# Altium integrated library Maxim Digital Potentiometers.IntLib: 1045 symbols (part 33 of 42)
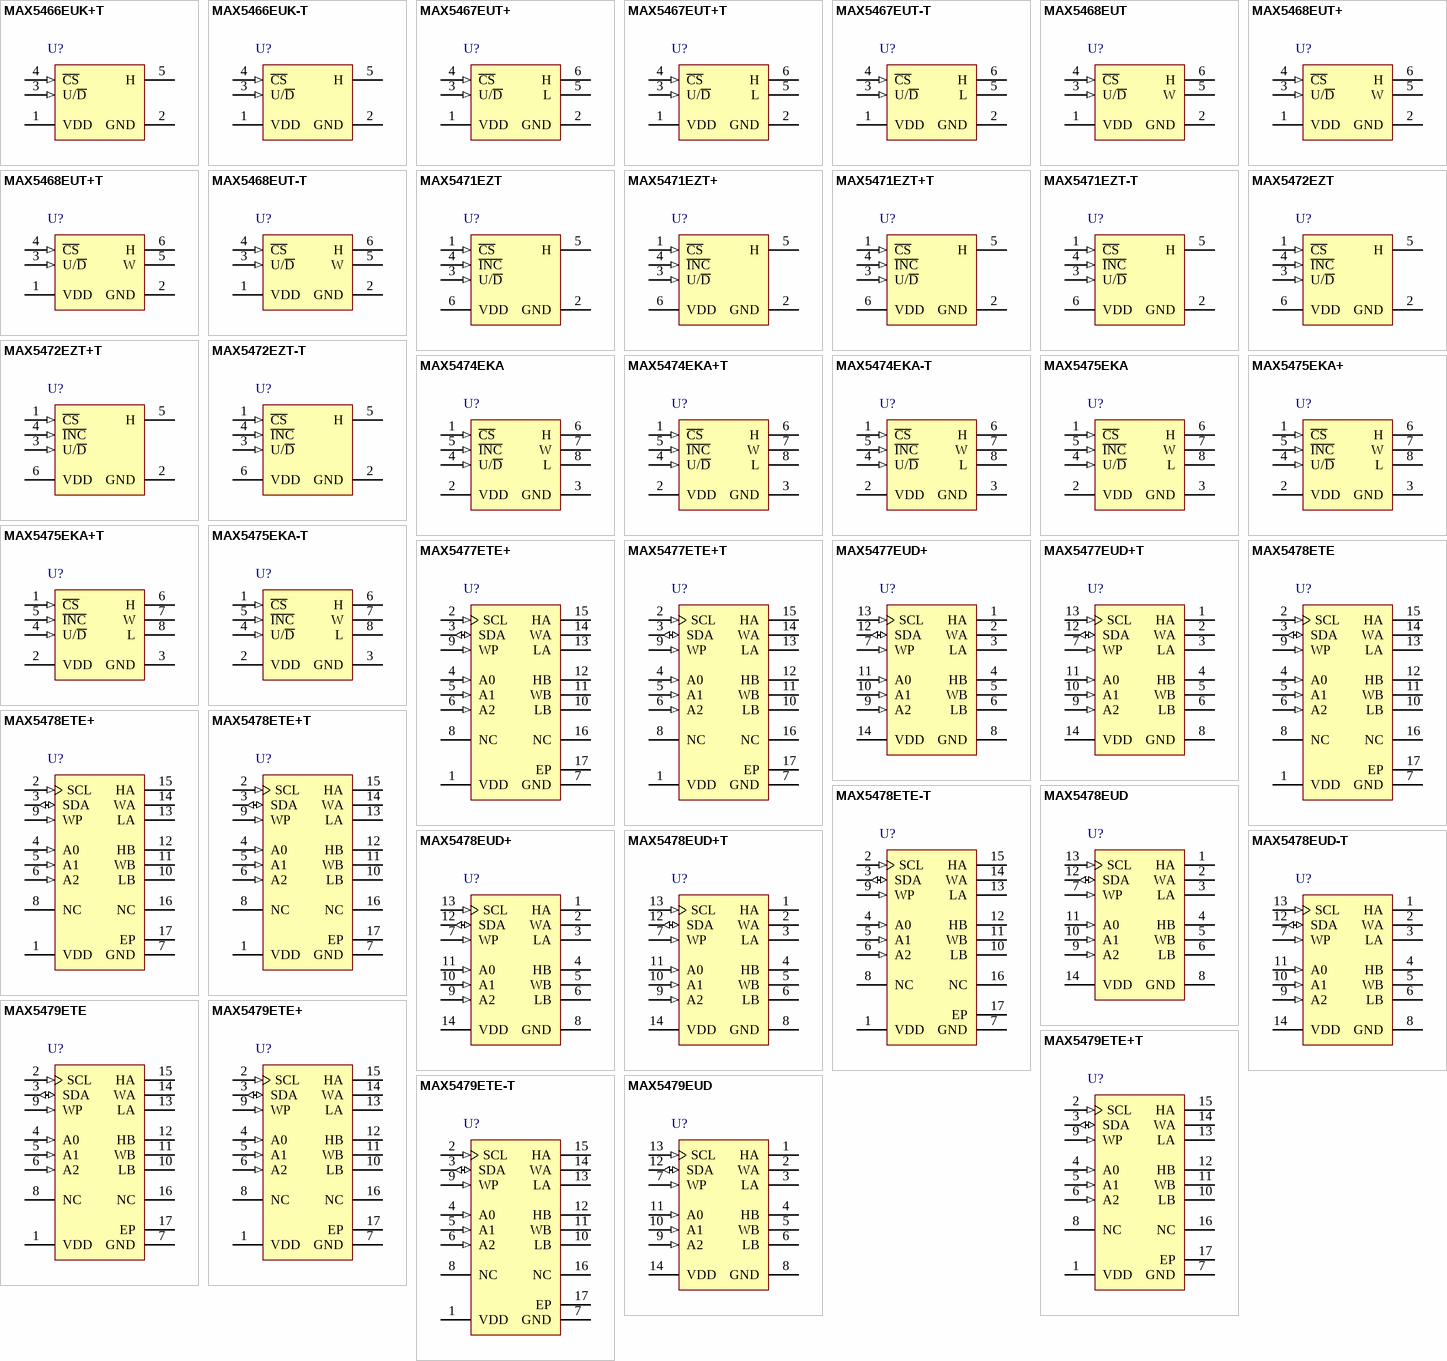
[diagram p61: symbols MAX5466EUK+T to MAX5479EUD]

## MAX5474EKA
designator U?
50 Kohm Potentiometer with Up/Down Control Interface, Non-Volatile, Linear Taper, 32 Steps, -40 to 85 degC, 8-pin SOT (K8SN-1); PartNumber: MAX5474EKA; DatasheetVersion: Rev. 1; PackageVersion: Rev. J, 10/2009; PackageReference: K8SN-1; PackageDescription: 8-Pin Small-Outline Transistor Package (K8SN-1), Body 2.9 x 1.625 mm, Pitch 0.65 mm; Supplier 1: Mouser; Supplier Part Number 1: N/A; Control Interface: Up/Down; Features: EEPROM Wiper Memory; Mounting Technology: Surface Mount; Code_JEDEC: MO178; ComponentLink1Description: Manufacturer URL; ComponentLink1URL: http://www.maximintegrated.com/; ComponentLink2Description: Datasheet; ComponentLink2URL: http://datasheets.maximintegrated.com/en/ds/MAX5471-MAX5475.pdf; ComponentLink3Description: Package Specification; ComponentLink3URL: http://pdfserv.maximintegrated.com/package_dwgs/21-0078.PDF
footprint MAXM-K8SN-1_V (SOT23, 8-Leads, Body 2.9x1.625mm, Pitch 0.65mm)
pins: 1 ~{CS} (in) "Chip-Select Input. Drive low to change wiper position (W) through I\N\C\ and U/D\. A low-to-high transition with I\N\C\ high stores the wiper position in nonvolatile memory", 2 VDD (power) "Power Supply.", 3 GND (power) "Ground", 4 U/~{D} (in) "Up/Down Control Input. With U/D\ low, a high-to-low I\N\C\ transition decrements the wiper position. With U/D\ high, a high-to-low I\N\C\ transition increments the wiper position.", 5 ~{INC} (in) "Wiper Increment Control Input. With C\S\ low, the wiper position moves in the direction determined by the state of U/D\ on a high-to-low transition.", 6 H "High Terminal of Resistor. The voltage at H can be greater than or less than the voltage at L. Current can flow into or out of H.", 7 W "Wiper Terminal of Resistor", 8 L "Low Terminal of Resistor. The voltage at L can be greater than or less than the voltage at H. Current can flow into or out of L."

## MAX5474EKA+T
designator U?
50 Kohm Potentiometer with Up/Down Control Interface, Non-Volatile, Linear Taper, 32 Steps, -40 to 85 degC, 8-pin SOT (K8SN+1), Pb-Free, Tape and Reel; PartNumber: MAX5474EKA+T; DatasheetVersion: Rev. 1; PackageVersion: Rev. J, 10/2009; PackageReference: K8SN+1; PackageDescription: 8-Pin Small-Outline Transistor Package (K8SN+1), Body 2.9 x 1.625 mm, Pitch 0.65 mm; Supplier 1: Digi-Key; Supplier Part Number 1: MAX5474EKA+TTR-ND; Supplier 2: Digi-Key; Supplier Part Number 2: MAX5474EKA+TCT-ND; Supplier 3: Digi-Key; Supplier Part Number 3: MAX5474EKA+TDKR-ND; Supplier 4: Mouser; Supplier Part Number 4: 700-MAX5474EKAT; Control Interface: Up/Down; Features: EEPROM Wiper Memory; Mounting Technology: Surface Mount; Code_JEDEC: MO178; ComponentLink1Description: Manufacturer URL; ComponentLink1URL: http://www.maximintegrated.com/; ComponentLink2Description: Datasheet; ComponentLink2URL: http://datasheets.maximintegrated.com/en/ds/MAX5471-MAX5475.pdf; ComponentLink3Description: Package Specification; ComponentLink3URL: http://pdfserv.maximintegrated.com/package_dwgs/21-0078.PDF
footprint MAXM-K8SN+1_V (SOT23, 8-Leads, Body 2.9x1.625mm, Pitch 0.65 mm)
pins: 1 ~{CS} (in) "Chip-Select Input. Drive low to change wiper position (W) through I\N\C\ and U/D\. A low-to-high transition with I\N\C\ high stores the wiper position in nonvolatile memory", 2 VDD (power) "Power Supply.", 3 GND (power) "Ground", 4 U/~{D} (in) "Up/Down Control Input. With U/D\ low, a high-to-low I\N\C\ transition decrements the wiper position. With U/D\ high, a high-to-low I\N\C\ transition increments the wiper position.", 5 ~{INC} (in) "Wiper Increment Control Input. With C\S\ low, the wiper position moves in the direction determined by the state of U/D\ on a high-to-low transition.", 6 H "High Terminal of Resistor. The voltage at H can be greater than or less than the voltage at L. Current can flow into or out of H.", 7 W "Wiper Terminal of Resistor", 8 L "Low Terminal of Resistor. The voltage at L can be greater than or less than the voltage at H. Current can flow into or out of L."

## MAX5474EKA-T
designator U?
50 Kohm Potentiometer with Up/Down Control Interface, Non-Volatile, Linear Taper, 32 Steps, -40 to 85 degC, 8-pin SOT (K8SN-1), Tape and Reel; PartNumber: MAX5474EKA-T; DatasheetVersion: Rev. 1; PackageVersion: Rev. J, 10/2009; PackageReference: K8SN-1; PackageDescription: 8-Pin Small-Outline Transistor Package (K8SN-1), Body 2.9 x 1.625 mm, Pitch 0.65 mm; Supplier 1: Mouser; Supplier Part Number 1: N/A; Control Interface: Up/Down; Features: EEPROM Wiper Memory; Mounting Technology: Surface Mount; Code_JEDEC: MO178; ComponentLink1Description: Manufacturer URL; ComponentLink1URL: http://www.maximintegrated.com/; ComponentLink2Description: Datasheet; ComponentLink2URL: http://datasheets.maximintegrated.com/en/ds/MAX5471-MAX5475.pdf; ComponentLink3Description: Package Specification; ComponentLink3URL: http://pdfserv.maximintegrated.com/package_dwgs/21-0078.PDF
footprint MAXM-K8SN-1_V (SOT23, 8-Leads, Body 2.9x1.625mm, Pitch 0.65mm)
pins: 1 ~{CS} (in) "Chip-Select Input. Drive low to change wiper position (W) through I\N\C\ and U/D\. A low-to-high transition with I\N\C\ high stores the wiper position in nonvolatile memory", 2 VDD (power) "Power Supply.", 3 GND (power) "Ground", 4 U/~{D} (in) "Up/Down Control Input. With U/D\ low, a high-to-low I\N\C\ transition decrements the wiper position. With U/D\ high, a high-to-low I\N\C\ transition increments the wiper position.", 5 ~{INC} (in) "Wiper Increment Control Input. With C\S\ low, the wiper position moves in the direction determined by the state of U/D\ on a high-to-low transition.", 6 H "High Terminal of Resistor. The voltage at H can be greater than or less than the voltage at L. Current can flow into or out of H.", 7 W "Wiper Terminal of Resistor", 8 L "Low Terminal of Resistor. The voltage at L can be greater than or less than the voltage at H. Current can flow into or out of L."

## MAX5475EKA
designator U?
100 Kohm Potentiometer with Up/Down Control Interface, Non-Volatile, Linear Taper, 32 Steps, -40 to 85 degC, 8-pin SOT (K8SN-1); PartNumber: MAX5475EKA; DatasheetVersion: Rev. 1; PackageVersion: Rev. J, 10/2009; PackageReference: K8SN-1; PackageDescription: 8-Pin Small-Outline Transistor Package (K8SN-1), Body 2.9 x 1.625 mm, Pitch 0.65 mm; Supplier 1: Mouser; Supplier Part Number 1: N/A; Control Interface: Up/Down; Features: EEPROM Wiper Memory; Mounting Technology: Surface Mount; Code_JEDEC: MO178; ComponentLink1Description: Manufacturer URL; ComponentLink1URL: http://www.maximintegrated.com/; ComponentLink2Description: Datasheet; ComponentLink2URL: http://datasheets.maximintegrated.com/en/ds/MAX5471-MAX5475.pdf; ComponentLink3Description: Package Specification; ComponentLink3URL: http://pdfserv.maximintegrated.com/package_dwgs/21-0078.PDF
footprint MAXM-K8SN-1_V (SOT23, 8-Leads, Body 2.9x1.625mm, Pitch 0.65mm)
pins: 1 ~{CS} (in) "Chip-Select Input. Drive low to change wiper position (W) through I\N\C\ and U/D\. A low-to-high transition with I\N\C\ high stores the wiper position in nonvolatile memory", 2 VDD (power) "Power Supply.", 3 GND (power) "Ground", 4 U/~{D} (in) "Up/Down Control Input. With U/D\ low, a high-to-low I\N\C\ transition decrements the wiper position. With U/D\ high, a high-to-low I\N\C\ transition increments the wiper position.", 5 ~{INC} (in) "Wiper Increment Control Input. With C\S\ low, the wiper position moves in the direction determined by the state of U/D\ on a high-to-low transition.", 6 H "High Terminal of Resistor. The voltage at H can be greater than or less than the voltage at L. Current can flow into or out of H.", 7 W "Wiper Terminal of Resistor", 8 L "Low Terminal of Resistor. The voltage at L can be greater than or less than the voltage at H. Current can flow into or out of L."

## MAX5475EKA+
designator U?
100 Kohm Potentiometer with Up/Down Control Interface, Non-Volatile, Linear Taper, 32 Steps, -40 to 85 degC, 8-pin SOT (K8SN+1), Pb-Free,; PartNumber: MAX5475EKA+; DatasheetVersion: Rev. 1; PackageVersion: Rev. J, 10/2009; PackageReference: K8SN+1; PackageDescription: 8-Pin Small-Outline Transistor Package (K8SN+1), Body 2.9 x 1.625 mm, Pitch 0.65 mm; Supplier 1: Mouser; Supplier Part Number 1: N/A; Control Interface: Up/Down; Features: EEPROM Wiper Memory; Mounting Technology: Surface Mount; Code_JEDEC: MO178; ComponentLink1Description: Manufacturer URL; ComponentLink1URL: http://www.maximintegrated.com/; ComponentLink2Description: Datasheet; ComponentLink2URL: http://datasheets.maximintegrated.com/en/ds/MAX5471-MAX5475.pdf; ComponentLink3Description: Package Specification; ComponentLink3URL: http://pdfserv.maximintegrated.com/package_dwgs/21-0078.PDF
footprint MAXM-K8SN+1_V (SOT23, 8-Leads, Body 2.9x1.625mm, Pitch 0.65 mm)
pins: 1 ~{CS} (in) "Chip-Select Input. Drive low to change wiper position (W) through I\N\C\ and U/D\. A low-to-high transition with I\N\C\ high stores the wiper position in nonvolatile memory", 2 VDD (power) "Power Supply.", 3 GND (power) "Ground", 4 U/~{D} (in) "Up/Down Control Input. With U/D\ low, a high-to-low I\N\C\ transition decrements the wiper position. With U/D\ high, a high-to-low I\N\C\ transition increments the wiper position.", 5 ~{INC} (in) "Wiper Increment Control Input. With C\S\ low, the wiper position moves in the direction determined by the state of U/D\ on a high-to-low transition.", 6 H "High Terminal of Resistor. The voltage at H can be greater than or less than the voltage at L. Current can flow into or out of H.", 7 W "Wiper Terminal of Resistor", 8 L "Low Terminal of Resistor. The voltage at L can be greater than or less than the voltage at H. Current can flow into or out of L."

## MAX5475EKA+T
designator U?
100 Kohm Potentiometer with Up/Down Control Interface, Non-Volatile, Linear Taper, 32 Steps, -40 to 85 degC, 8-pin SOT (K8SN+1), Pb-Free, Tape and Reel; PartNumber: MAX5475EKA+T; DatasheetVersion: Rev. 1; PackageVersion: Rev. J, 10/2009; PackageReference: K8SN+1; PackageDescription: 8-Pin Small-Outline Transistor Package (K8SN+1), Body 2.9 x 1.625 mm, Pitch 0.65 mm; Supplier 1: Digi-Key; Supplier Part Number 1: MAX5475EKA+TTR-ND; Supplier 2: Digi-Key; Supplier Part Number 2: MAX5475EKA+TCT-ND; Supplier 3: Digi-Key; Supplier Part Number 3: MAX5475EKA+TDKR-ND; Supplier 4: Mouser; Supplier Part Number 4: 700-MAX5475EKAT; Control Interface: Up/Down; Features: EEPROM Wiper Memory; Mounting Technology: Surface Mount; Code_JEDEC: MO178; ComponentLink1Description: Manufacturer URL; ComponentLink1URL: http://www.maximintegrated.com/; ComponentLink2Description: Datasheet; ComponentLink2URL: http://datasheets.maximintegrated.com/en/ds/MAX5471-MAX5475.pdf; ComponentLink3Description: Package Specification; ComponentLink3URL: http://pdfserv.maximintegrated.com/package_dwgs/21-0078.PDF
footprint MAXM-K8SN+1_V (SOT23, 8-Leads, Body 2.9x1.625mm, Pitch 0.65 mm)
pins: 1 ~{CS} (in) "Chip-Select Input. Drive low to change wiper position (W) through I\N\C\ and U/D\. A low-to-high transition with I\N\C\ high stores the wiper position in nonvolatile memory", 2 VDD (power) "Power Supply.", 3 GND (power) "Ground", 4 U/~{D} (in) "Up/Down Control Input. With U/D\ low, a high-to-low I\N\C\ transition decrements the wiper position. With U/D\ high, a high-to-low I\N\C\ transition increments the wiper position.", 5 ~{INC} (in) "Wiper Increment Control Input. With C\S\ low, the wiper position moves in the direction determined by the state of U/D\ on a high-to-low transition.", 6 H "High Terminal of Resistor. The voltage at H can be greater than or less than the voltage at L. Current can flow into or out of H.", 7 W "Wiper Terminal of Resistor", 8 L "Low Terminal of Resistor. The voltage at L can be greater than or less than the voltage at H. Current can flow into or out of L."

## MAX5475EKA-T
designator U?
100 Kohm Potentiometer with Up/Down Control Interface, Non-Volatile, Linear Taper, 32 Steps, -40 to 85 degC, 8-pin SOT (K8SN-1), Tape and Reel; PartNumber: MAX5475EKA-T; DatasheetVersion: Rev. 1; PackageVersion: Rev. J, 10/2009; PackageReference: K8SN-1; PackageDescription: 8-Pin Small-Outline Transistor Package (K8SN-1), Body 2.9 x 1.625 mm, Pitch 0.65 mm; Supplier 1: Mouser; Supplier Part Number 1: N/A; Control Interface: Up/Down; Features: EEPROM Wiper Memory; Mounting Technology: Surface Mount; Code_JEDEC: MO178; ComponentLink1Description: Manufacturer URL; ComponentLink1URL: http://www.maximintegrated.com/; ComponentLink2Description: Datasheet; ComponentLink2URL: http://datasheets.maximintegrated.com/en/ds/MAX5471-MAX5475.pdf; ComponentLink3Description: Package Specification; ComponentLink3URL: http://pdfserv.maximintegrated.com/package_dwgs/21-0078.PDF
footprint MAXM-K8SN-1_V (SOT23, 8-Leads, Body 2.9x1.625mm, Pitch 0.65mm)
pins: 1 ~{CS} (in) "Chip-Select Input. Drive low to change wiper position (W) through I\N\C\ and U/D\. A low-to-high transition with I\N\C\ high stores the wiper position in nonvolatile memory", 2 VDD (power) "Power Supply.", 3 GND (power) "Ground", 4 U/~{D} (in) "Up/Down Control Input. With U/D\ low, a high-to-low I\N\C\ transition decrements the wiper position. With U/D\ high, a high-to-low I\N\C\ transition increments the wiper position.", 5 ~{INC} (in) "Wiper Increment Control Input. With C\S\ low, the wiper position moves in the direction determined by the state of U/D\ on a high-to-low transition.", 6 H "High Terminal of Resistor. The voltage at H can be greater than or less than the voltage at L. Current can flow into or out of H.", 7 W "Wiper Terminal of Resistor", 8 L "Low Terminal of Resistor. The voltage at L can be greater than or less than the voltage at H. Current can flow into or out of L."

## MAX5477ETE+
designator U?
Dual 10k Digital Potentiometer with 2-Wire Serial Control Interface, Non-Volatile, Linear Taper, 256 Steps, -40 to 85 degC, 16-pin TQFN (T1633F+3), Pb-Free; PartNumber: MAX5477ETE+; DatasheetVersion: Rev. 5; PackageVersion: Rev. L, 04/2012; PackageReference: T1633F+3; PackageDescription: 16-Pin Thin Quad Flatpack, No Leads, Body 3 x 3 mm, Pitch 0.5 mm; Supplier 1: Digi-Key; Supplier Part Number 1: MAX5477ETE+-ND; Supplier 2: Farnell; Supplier Part Number 2: 1714951; Supplier 3: Newark; Supplier Part Number 3: 88M2599; Supplier 4: Mouser; Supplier Part Number 4: 700-MAX5477ETE; Control Interface: 2-Wire Serial; Features: EEPROM Wiper Memory; Mounting Technology: Surface Mount; Code_JEDEC: MO220; ComponentLink1Description: Manufacturer URL; ComponentLink1URL: http://www.maximintegrated.com/; ComponentLink2Description: Datasheet; ComponentLink2URL: http://datasheets.maximintegrated.com/en/ds/MAX5477-MAX5479.pdf; ComponentLink3Description: Package Specification; ComponentLink3URL: http://pdfserv.maximintegrated.com/package_dwgs/21-0136.PDF
footprint MAXM-T1633F+3_N (QFN, 16-Leads, Body 3x3mm, Pitch 0.5mm, Thermal Pad 0.8x0.8mm, IPC Medium Density)
footprint MAXM-T1633F+3_L (QFN, 16-Leads, Body 3x3mm, Pitch 0.5mm, Thermal Pad 0.8x0.8mm, IPC High Density)
footprint MAXM-T1633F+3_M (QFN, 16-Leads, Body 3x3mm, Pitch 0.5mm, Thermal Pad 0.8x0.8mm, IPC Low Density)
pins: 1 VDD (power) "Power-Supply Input. Connect a +2.7V to +5.25V power supply to VDD and bypass VDD to GND with a 0.1uF capacitor installed as close to the device as possible.", 2 SCL (in) "I2C Clock Input", 3 SDA (io) "I2C Serial Data", 4 A0 (in) "Address Input 0. Connect to VDD or GND (see Table 1).", 5 A1 (in) "Address Input 1. Connect to VDD or GND (see Table 1).", 6 A2 (in) "Address Input 2. Connect to VDD or GND (see Table 1).", 7 GND (power) "Ground", 8 NC "No Connection. Do not connect.", 9 WP (in) "Write-Protect Input. Connect to GND to allow changes to the wiper position and the data stored in the EEPROM. Connect to VDD or leave unconnected to enable the write protection of the EEPROM. See the Write Protect (WP) (See Datasheet)", 10 LB "Potentiometer B Low Terminal", 11 WB "Potentiometer B Wiper Terminal", 12 HB "Potentiometer B High Terminal", 13 LA "Potentiometer A Low Terminal", 14 WA "Potentiometer A Wiper Terminal", 15 HA "Potentiometer A High Terminal", 16 NC "No Connection. Do not connect.", 17 EP "Exposed Paddle. Do not connect."

## MAX5477ETE+T
designator U?
Dual 10k Digital Potentiometer with 2-Wire Serial Control Interface, Non-Volatile, Linear Taper, 256 Steps, -40 to 85 degC, 16-pin TQFN (T1633F+3), Pb-Free, Tape and Reel; PartNumber: MAX5477ETE+T; DatasheetVersion: Rev. 5; PackageVersion: Rev. L, 04/2012; PackageReference: T1633F+3; PackageDescription: 16-Pin Thin Quad Flatpack, No Leads, Body 3 x 3 mm, Pitch 0.5 mm; Supplier 1: Digi-Key; Supplier Part Number 1: MAX5477ETE+T-ND; Supplier 2: Mouser; Supplier Part Number 2: 700-MAX5477ETET; Control Interface: 2-Wire Serial; Features: EEPROM Wiper Memory; Mounting Technology: Surface Mount; Code_JEDEC: MO220; ComponentLink1Description: Manufacturer URL; ComponentLink1URL: http://www.maximintegrated.com/; ComponentLink2Description: Datasheet; ComponentLink2URL: http://datasheets.maximintegrated.com/en/ds/MAX5477-MAX5479.pdf; ComponentLink3Description: Package Specification; ComponentLink3URL: http://pdfserv.maximintegrated.com/package_dwgs/21-0136.PDF
footprint MAXM-T1633F+3_N (QFN, 16-Leads, Body 3x3mm, Pitch 0.5mm, Thermal Pad 0.8x0.8mm, IPC Medium Density)
footprint MAXM-T1633F+3_L (QFN, 16-Leads, Body 3x3mm, Pitch 0.5mm, Thermal Pad 0.8x0.8mm, IPC High Density)
footprint MAXM-T1633F+3_M (QFN, 16-Leads, Body 3x3mm, Pitch 0.5mm, Thermal Pad 0.8x0.8mm, IPC Low Density)
pins: 1 VDD (power) "Power-Supply Input. Connect a +2.7V to +5.25V power supply to VDD and bypass VDD to GND with a 0.1uF capacitor installed as close to the device as possible.", 2 SCL (in) "I2C Clock Input", 3 SDA (io) "I2C Serial Data", 4 A0 (in) "Address Input 0. Connect to VDD or GND (see Table 1).", 5 A1 (in) "Address Input 1. Connect to VDD or GND (see Table 1).", 6 A2 (in) "Address Input 2. Connect to VDD or GND (see Table 1).", 7 GND (power) "Ground", 8 NC "No Connection. Do not connect.", 9 WP (in) "Write-Protect Input. Connect to GND to allow changes to the wiper position and the data stored in the EEPROM. Connect to VDD or leave unconnected to enable the write protection of the EEPROM. See the Write Protect (WP) (See Datasheet)", 10 LB "Potentiometer B Low Terminal", 11 WB "Potentiometer B Wiper Terminal", 12 HB "Potentiometer B High Terminal", 13 LA "Potentiometer A Low Terminal", 14 WA "Potentiometer A Wiper Terminal", 15 HA "Potentiometer A High Terminal", 16 NC "No Connection. Do not connect.", 17 EP "Exposed Paddle. Do not connect."

## MAX5477EUD+
designator U?
Dual 10k Digital Potentiometer with 2-Wire Serial Control Interface, Non-Volatile, Linear Taper, 256 Steps, -40 to 85 degC, 14-pin TSSOP (U14+1), Pb-Free; PartNumber: MAX5477EUD+; DatasheetVersion: Rev. 5; PackageVersion: Rev. L, 07/2010; PackageReference: U14+1; PackageDescription: 14-Pin Thin Shrink Small-Outline Package (U14+1), Body 5 x 4.4 mm, Pitch 0.65 mm; Supplier 1: Digi-Key; Supplier Part Number 1: MAX5477EUD+-ND; Supplier 2: Mouser; Supplier Part Number 2: 700-MAX5477EUD; Control Interface: 2-Wire Serial; Features: EEPROM Wiper Memory; Mounting Technology: Surface Mount; Code_JEDEC: MO-153; ComponentLink1Description: Manufacturer URL; ComponentLink1URL: http://www.maximintegrated.com/; ComponentLink2Description: Datasheet; ComponentLink2URL: http://datasheets.maximintegrated.com/en/ds/MAX5477-MAX5479.pdf; ComponentLink3Description: Package Specification; ComponentLink3URL: http://pdfserv.maximintegrated.com/package_dwgs/21-0066.PDF
footprint MAXM-U14+1_N (SOP, 14-Leads, Body 5x4.4mm, Pitch 0.65mm, IPC Medium Density)
footprint MAXM-U14+1_L (SOP, 14-Leads, Body 5x4.4mm, Pitch 0.65mm, IPC High Density)
footprint MAXM-U14+1_M (SOP, 14-Leads, Body 5x4.4mm, Pitch 0.65mm, IPC Low Density)
pins: 1 HA "Potentiometer A High Terminal", 2 WA "Potentiometer A Wiper Terminal", 3 LA "Potentiometer A Low Terminal", 4 HB "Potentiometer B High Terminal", 5 WB "Potentiometer B Wiper Terminal", 6 LB "Potentiometer B Low Terminal", 7 WP (in) "Write-Protect Input. Connect to GND to allow changes to the wiper position and the data stored in the EEPROM. Connect to VDD or leave unconnected to enable the write protection of the EEPROM. See the Write Protect (WP) (See Datasheet)", 8 GND (power) "Ground", 9 A2 (in) "Address Input 2. Connect to VDD or GND", 10 A1 (in) "Address Input 1. Connect to VDD or GND", 11 A0 (in) "Address Input 0. Connect to VDD or GND", 12 SDA (io) "I2C Serial Data", 13 SCL (in) "I2C Clock Input", 14 VDD (power) "Power-Supply Input. Connect a +2.7V to +5.25V power supply to VDD and bypass VDD to GND with a 0.1uF capacitor installed as close to the device as possible"

## MAX5477EUD+T
designator U?
Dual 10k Digital Potentiometer with 2-Wire Serial Control Interface, Non-Volatile, Linear Taper, 256 Steps, -40 to 85 degC, 14-pin TSSOP (U14+1), Pb-Free, Tape and Reel; PartNumber: MAX5477EUD+T; DatasheetVersion: Rev. 5; PackageVersion: Rev. L, 07/2010; PackageReference: U14+1; PackageDescription: 14-Pin Thin Shrink Small-Outline Package (U14+1), Body 5 x 4.4 mm, Pitch 0.65 mm; Supplier 1: Digi-Key; Supplier Part Number 1: MAX5477EUD+T-ND; Supplier 2: Mouser; Supplier Part Number 2: 700-MAX5477EUDT; Control Interface: 2-Wire Serial; Features: EEPROM Wiper Memory; Mounting Technology: Surface Mount; Code_JEDEC: MO-153; ComponentLink1Description: Manufacturer URL; ComponentLink1URL: http://www.maximintegrated.com/; ComponentLink2Description: Datasheet; ComponentLink2URL: http://datasheets.maximintegrated.com/en/ds/MAX5477-MAX5479.pdf; ComponentLink3Description: Package Specification; ComponentLink3URL: http://pdfserv.maximintegrated.com/package_dwgs/21-0066.PDF
footprint MAXM-U14+1_N (SOP, 14-Leads, Body 5x4.4mm, Pitch 0.65mm, IPC Medium Density)
footprint MAXM-U14+1_L (SOP, 14-Leads, Body 5x4.4mm, Pitch 0.65mm, IPC High Density)
footprint MAXM-U14+1_M (SOP, 14-Leads, Body 5x4.4mm, Pitch 0.65mm, IPC Low Density)
pins: 1 HA "Potentiometer A High Terminal", 2 WA "Potentiometer A Wiper Terminal", 3 LA "Potentiometer A Low Terminal", 4 HB "Potentiometer B High Terminal", 5 WB "Potentiometer B Wiper Terminal", 6 LB "Potentiometer B Low Terminal", 7 WP (in) "Write-Protect Input. Connect to GND to allow changes to the wiper position and the data stored in the EEPROM. Connect to VDD or leave unconnected to enable the write protection of the EEPROM. See the Write Protect (WP) (See Datasheet)", 8 GND (power) "Ground", 9 A2 (in) "Address Input 2. Connect to VDD or GND", 10 A1 (in) "Address Input 1. Connect to VDD or GND", 11 A0 (in) "Address Input 0. Connect to VDD or GND", 12 SDA (io) "I2C Serial Data", 13 SCL (in) "I2C Clock Input", 14 VDD (power) "Power-Supply Input. Connect a +2.7V to +5.25V power supply to VDD and bypass VDD to GND with a 0.1uF capacitor installed as close to the device as possible"

## MAX5478ETE
designator U?
Dual 50k Digital Potentiometer with 2-Wire Serial Control Interface, Non-Volatile, Linear Taper, 256 Steps, -40 to 85 degC, 16-pin TQFN (T1633F-3); PartNumber: MAX5478ETE; DatasheetVersion: Rev. 5; PackageVersion: Rev. L, 04/2012; PackageReference: T1633F-3; PackageDescription: 16-Pin Thin Quad Flatpack, No Leads, Body 3 x 3 mm, Pitch 0.5 mm; Supplier 1: Mouser; Supplier Part Number 1: N/A; Control Interface: 2-Wire Serial; Features: EEPROM Wiper Memory; Mounting Technology: Surface Mount; Code_JEDEC: MO220; ComponentLink1Description: Manufacturer URL; ComponentLink1URL: http://www.maximintegrated.com/; ComponentLink2Description: Datasheet; ComponentLink2URL: http://datasheets.maximintegrated.com/en/ds/MAX5477-MAX5479.pdf; ComponentLink3Description: Package Specification; ComponentLink3URL: http://pdfserv.maximintegrated.com/package_dwgs/21-0136.PDF
footprint MAXM-T1633F-3_N (QFN, 16-Leads, Body 3x3mm, Pitch 0.5mm, Thermal Pad 0.8x0.8mm, IPC Medium Density)
footprint MAXM-T1633F-3_L (QFN, 16-Leads, Body 3x3mm, Pitch 0.5mm, Thermal Pad 0.8x0.8mm, IPC High Density)
footprint MAXM-T1633F-3_M (QFN, 16-Leads, Body 3x3mm, Pitch 0.5mm, Thermal Pad 0.8x0.8mm, IPC Low Density)
pins: 1 VDD (power) "Power-Supply Input. Connect a +2.7V to +5.25V power supply to VDD and bypass VDD to GND with a 0.1uF capacitor installed as close to the device as possible.", 2 SCL (in) "I2C Clock Input", 3 SDA (io) "I2C Serial Data", 4 A0 (in) "Address Input 0. Connect to VDD or GND (see Table 1).", 5 A1 (in) "Address Input 1. Connect to VDD or GND (see Table 1).", 6 A2 (in) "Address Input 2. Connect to VDD or GND (see Table 1).", 7 GND (power) "Ground", 8 NC "No Connection. Do not connect.", 9 WP (in) "Write-Protect Input. Connect to GND to allow changes to the wiper position and the data stored in the EEPROM. Connect to VDD or leave unconnected to enable the write protection of the EEPROM. See the Write Protect (WP) (See Datasheet)", 10 LB "Potentiometer B Low Terminal", 11 WB "Potentiometer B Wiper Terminal", 12 HB "Potentiometer B High Terminal", 13 LA "Potentiometer A Low Terminal", 14 WA "Potentiometer A Wiper Terminal", 15 HA "Potentiometer A High Terminal", 16 NC "No Connection. Do not connect.", 17 EP "Exposed Paddle. Do not connect."

## MAX5478ETE+
designator U?
Dual 50k Digital Potentiometer with 2-Wire Serial Control Interface, Non-Volatile, Linear Taper, 256 Steps, -40 to 85 degC, 16-pin TQFN (T1633F+3), Pb-Free; PartNumber: MAX5478ETE+; DatasheetVersion: Rev. 5; PackageVersion: Rev. L, 04/2012; PackageReference: T1633F+3; PackageDescription: 16-Pin Thin Quad Flatpack, No Leads, Body 3 x 3 mm, Pitch 0.5 mm; Supplier 1: Digi-Key; Supplier Part Number 1: MAX5478ETE+-ND; Supplier 2: Mouser; Supplier Part Number 2: 700-MAX5478ETE; Control Interface: 2-Wire Serial; Features: EEPROM Wiper Memory; Mounting Technology: Surface Mount; Code_JEDEC: MO220; ComponentLink1Description: Manufacturer URL; ComponentLink1URL: http://www.maximintegrated.com/; ComponentLink2Description: Datasheet; ComponentLink2URL: http://datasheets.maximintegrated.com/en/ds/MAX5477-MAX5479.pdf; ComponentLink3Description: Package Specification; ComponentLink3URL: http://pdfserv.maximintegrated.com/package_dwgs/21-0136.PDF
footprint MAXM-T1633F+3_N (QFN, 16-Leads, Body 3x3mm, Pitch 0.5mm, Thermal Pad 0.8x0.8mm, IPC Medium Density)
footprint MAXM-T1633F+3_L (QFN, 16-Leads, Body 3x3mm, Pitch 0.5mm, Thermal Pad 0.8x0.8mm, IPC High Density)
footprint MAXM-T1633F+3_M (QFN, 16-Leads, Body 3x3mm, Pitch 0.5mm, Thermal Pad 0.8x0.8mm, IPC Low Density)
pins: 1 VDD (power) "Power-Supply Input. Connect a +2.7V to +5.25V power supply to VDD and bypass VDD to GND with a 0.1uF capacitor installed as close to the device as possible.", 2 SCL (in) "I2C Clock Input", 3 SDA (io) "I2C Serial Data", 4 A0 (in) "Address Input 0. Connect to VDD or GND (see Table 1).", 5 A1 (in) "Address Input 1. Connect to VDD or GND (see Table 1).", 6 A2 (in) "Address Input 2. Connect to VDD or GND (see Table 1).", 7 GND (power) "Ground", 8 NC "No Connection. Do not connect.", 9 WP (in) "Write-Protect Input. Connect to GND to allow changes to the wiper position and the data stored in the EEPROM. Connect to VDD or leave unconnected to enable the write protection of the EEPROM. See the Write Protect (WP) (See Datasheet)", 10 LB "Potentiometer B Low Terminal", 11 WB "Potentiometer B Wiper Terminal", 12 HB "Potentiometer B High Terminal", 13 LA "Potentiometer A Low Terminal", 14 WA "Potentiometer A Wiper Terminal", 15 HA "Potentiometer A High Terminal", 16 NC "No Connection. Do not connect.", 17 EP "Exposed Paddle. Do not connect."

## MAX5478ETE+T
designator U?
Dual 50k Digital Potentiometer with 2-Wire Serial Control Interface, Non-Volatile, Linear Taper, 256 Steps, -40 to 85 degC, 16-pin TQFN (T1633F+3), Pb-Free, Tape and Reel; PartNumber: MAX5478ETE+T; DatasheetVersion: Rev. 5; PackageVersion: Rev. L, 04/2012; PackageReference: T1633F+3; PackageDescription: 16-Pin Thin Quad Flatpack, No Leads, Body 3 x 3 mm, Pitch 0.5 mm; Supplier 1: Digi-Key; Supplier Part Number 1: MAX5478ETE+T-ND; Supplier 2: Mouser; Supplier Part Number 2: 700-MAX5478ETET; Control Interface: 2-Wire Serial; Features: EEPROM Wiper Memory; Mounting Technology: Surface Mount; Code_JEDEC: MO220; ComponentLink1Description: Manufacturer URL; ComponentLink1URL: http://www.maximintegrated.com/; ComponentLink2Description: Datasheet; ComponentLink2URL: http://datasheets.maximintegrated.com/en/ds/MAX5477-MAX5479.pdf; ComponentLink3Description: Package Specification; ComponentLink3URL: http://pdfserv.maximintegrated.com/package_dwgs/21-0136.PDF
footprint MAXM-T1633F+3_N (QFN, 16-Leads, Body 3x3mm, Pitch 0.5mm, Thermal Pad 0.8x0.8mm, IPC Medium Density)
footprint MAXM-T1633F+3_L (QFN, 16-Leads, Body 3x3mm, Pitch 0.5mm, Thermal Pad 0.8x0.8mm, IPC High Density)
footprint MAXM-T1633F+3_M (QFN, 16-Leads, Body 3x3mm, Pitch 0.5mm, Thermal Pad 0.8x0.8mm, IPC Low Density)
pins: 1 VDD (power) "Power-Supply Input. Connect a +2.7V to +5.25V power supply to VDD and bypass VDD to GND with a 0.1uF capacitor installed as close to the device as possible.", 2 SCL (in) "I2C Clock Input", 3 SDA (io) "I2C Serial Data", 4 A0 (in) "Address Input 0. Connect to VDD or GND (see Table 1).", 5 A1 (in) "Address Input 1. Connect to VDD or GND (see Table 1).", 6 A2 (in) "Address Input 2. Connect to VDD or GND (see Table 1).", 7 GND (power) "Ground", 8 NC "No Connection. Do not connect.", 9 WP (in) "Write-Protect Input. Connect to GND to allow changes to the wiper position and the data stored in the EEPROM. Connect to VDD or leave unconnected to enable the write protection of the EEPROM. See the Write Protect (WP) (See Datasheet)", 10 LB "Potentiometer B Low Terminal", 11 WB "Potentiometer B Wiper Terminal", 12 HB "Potentiometer B High Terminal", 13 LA "Potentiometer A Low Terminal", 14 WA "Potentiometer A Wiper Terminal", 15 HA "Potentiometer A High Terminal", 16 NC "No Connection. Do not connect.", 17 EP "Exposed Paddle. Do not connect."

## MAX5478ETE-T
designator U?
Dual 50k Digital Potentiometer with 2-Wire Serial Control Interface, Non-Volatile, Linear Taper, 256 Steps, -40 to 85 degC, 16-pin TQFN (T1633F-3), Tape and Reel; PartNumber: MAX5478ETE-T; DatasheetVersion: Rev. 5; PackageVersion: Rev. L, 04/2012; PackageReference: T1633F-3; PackageDescription: 16-Pin Thin Quad Flatpack, No Leads, Body 3 x 3 mm, Pitch 0.5 mm; Supplier 1: Mouser; Supplier Part Number 1: N/A; Control Interface: 2-Wire Serial; Features: EEPROM Wiper Memory; Mounting Technology: Surface Mount; Code_JEDEC: MO220; ComponentLink1Description: Manufacturer URL; ComponentLink1URL: http://www.maximintegrated.com/; ComponentLink2Description: Datasheet; ComponentLink2URL: http://datasheets.maximintegrated.com/en/ds/MAX5477-MAX5479.pdf; ComponentLink3Description: Package Specification; ComponentLink3URL: http://pdfserv.maximintegrated.com/package_dwgs/21-0136.PDF
footprint MAXM-T1633F-3_N (QFN, 16-Leads, Body 3x3mm, Pitch 0.5mm, Thermal Pad 0.8x0.8mm, IPC Medium Density)
footprint MAXM-T1633F-3_L (QFN, 16-Leads, Body 3x3mm, Pitch 0.5mm, Thermal Pad 0.8x0.8mm, IPC High Density)
footprint MAXM-T1633F-3_M (QFN, 16-Leads, Body 3x3mm, Pitch 0.5mm, Thermal Pad 0.8x0.8mm, IPC Low Density)
pins: 1 VDD (power) "Power-Supply Input. Connect a +2.7V to +5.25V power supply to VDD and bypass VDD to GND with a 0.1uF capacitor installed as close to the device as possible.", 2 SCL (in) "I2C Clock Input", 3 SDA (io) "I2C Serial Data", 4 A0 (in) "Address Input 0. Connect to VDD or GND (see Table 1).", 5 A1 (in) "Address Input 1. Connect to VDD or GND (see Table 1).", 6 A2 (in) "Address Input 2. Connect to VDD or GND (see Table 1).", 7 GND (power) "Ground", 8 NC "No Connection. Do not connect.", 9 WP (in) "Write-Protect Input. Connect to GND to allow changes to the wiper position and the data stored in the EEPROM. Connect to VDD or leave unconnected to enable the write protection of the EEPROM. See the Write Protect (WP) (See Datasheet)", 10 LB "Potentiometer B Low Terminal", 11 WB "Potentiometer B Wiper Terminal", 12 HB "Potentiometer B High Terminal", 13 LA "Potentiometer A Low Terminal", 14 WA "Potentiometer A Wiper Terminal", 15 HA "Potentiometer A High Terminal", 16 NC "No Connection. Do not connect.", 17 EP "Exposed Paddle. Do not connect."

## MAX5478EUD
designator U?
Dual 50k Digital Potentiometer with 2-Wire Serial Control Interface, Non-Volatile, Linear Taper, 256 Steps, -40 to 85 degC, 14-pin TSSOP (U14-1); PartNumber: MAX5478EUD; DatasheetVersion: Rev. 5; PackageVersion: Rev. L, 07/2010; PackageReference: U14-1; PackageDescription: 14-Pin Thin Shrink Small-Outline Package (U14-1), Body 5 x 4.4 mm, Pitch 0.65 mm; Supplier 1: Mouser; Supplier Part Number 1: N/A; Control Interface: 2-Wire Serial; Features: EEPROM Wiper Memory; Mounting Technology: Surface Mount; Code_JEDEC: MO-153; ComponentLink1Description: Manufacturer URL; ComponentLink1URL: http://www.maximintegrated.com/; ComponentLink2Description: Datasheet; ComponentLink2URL: http://datasheets.maximintegrated.com/en/ds/MAX5477-MAX5479.pdf; ComponentLink3Description: Package Specification; ComponentLink3URL: http://pdfserv.maximintegrated.com/package_dwgs/21-0066.PDF
footprint MAXM-U14-1_N (SOP, 14-Leads, Body 5x4.4mm, Pitch 0.65mm, IPC Medium Density)
footprint MAXM-U14-1_L (SOP, 14-Leads, Body 5x4.4mm, Pitch 0.65mm, IPC High Density)
footprint MAXM-U14-1_M (SOP, 14-Leads, Body 5x4.4mm, Pitch 0.65mm, IPC Low Density)
pins: 1 HA "Potentiometer A High Terminal", 2 WA "Potentiometer A Wiper Terminal", 3 LA "Potentiometer A Low Terminal", 4 HB "Potentiometer B High Terminal", 5 WB "Potentiometer B Wiper Terminal", 6 LB "Potentiometer B Low Terminal", 7 WP (in) "Write-Protect Input. Connect to GND to allow changes to the wiper position and the data stored in the EEPROM. Connect to VDD or leave unconnected to enable the write protection of the EEPROM. See the Write Protect (WP) (See Datasheet)", 8 GND (power) "Ground", 9 A2 (in) "Address Input 2. Connect to VDD or GND", 10 A1 (in) "Address Input 1. Connect to VDD or GND", 11 A0 (in) "Address Input 0. Connect to VDD or GND", 12 SDA (io) "I2C Serial Data", 13 SCL (in) "I2C Clock Input", 14 VDD (power) "Power-Supply Input. Connect a +2.7V to +5.25V power supply to VDD and bypass VDD to GND with a 0.1uF capacitor installed as close to the device as possible"

## MAX5478EUD+
designator U?
Dual 50k Digital Potentiometer with 2-Wire Serial Control Interface, Non-Volatile, Linear Taper, 256 Steps, -40 to 85 degC, 14-pin TSSOP (U14+1), Pb-Free; PartNumber: MAX5478EUD+; DatasheetVersion: Rev. 5; PackageVersion: Rev. L, 07/2010; PackageReference: U14+1; PackageDescription: 14-Pin Thin Shrink Small-Outline Package (U14+1), Body 5 x 4.4 mm, Pitch 0.65 mm; Supplier 1: Digi-Key; Supplier Part Number 1: MAX5478EUD+-ND; Supplier 2: Newark; Supplier Part Number 2: 23K6196; Supplier 3: Mouser; Supplier Part Number 3: 700-MAX5478EUD; Control Interface: 2-Wire Serial; Features: EEPROM Wiper Memory; Mounting Technology: Surface Mount; Code_JEDEC: MO-153; ComponentLink1Description: Manufacturer URL; ComponentLink1URL: http://www.maximintegrated.com/; ComponentLink2Description: Datasheet; ComponentLink2URL: http://datasheets.maximintegrated.com/en/ds/MAX5477-MAX5479.pdf; ComponentLink3Description: Package Specification; ComponentLink3URL: http://pdfserv.maximintegrated.com/package_dwgs/21-0066.PDF
footprint MAXM-U14+1_N (SOP, 14-Leads, Body 5x4.4mm, Pitch 0.65mm, IPC Medium Density)
footprint MAXM-U14+1_L (SOP, 14-Leads, Body 5x4.4mm, Pitch 0.65mm, IPC High Density)
footprint MAXM-U14+1_M (SOP, 14-Leads, Body 5x4.4mm, Pitch 0.65mm, IPC Low Density)
pins: 1 HA "Potentiometer A High Terminal", 2 WA "Potentiometer A Wiper Terminal", 3 LA "Potentiometer A Low Terminal", 4 HB "Potentiometer B High Terminal", 5 WB "Potentiometer B Wiper Terminal", 6 LB "Potentiometer B Low Terminal", 7 WP (in) "Write-Protect Input. Connect to GND to allow changes to the wiper position and the data stored in the EEPROM. Connect to VDD or leave unconnected to enable the write protection of the EEPROM. See the Write Protect (WP) (See Datasheet)", 8 GND (power) "Ground", 9 A2 (in) "Address Input 2. Connect to VDD or GND", 10 A1 (in) "Address Input 1. Connect to VDD or GND", 11 A0 (in) "Address Input 0. Connect to VDD or GND", 12 SDA (io) "I2C Serial Data", 13 SCL (in) "I2C Clock Input", 14 VDD (power) "Power-Supply Input. Connect a +2.7V to +5.25V power supply to VDD and bypass VDD to GND with a 0.1uF capacitor installed as close to the device as possible"

## MAX5478EUD+T
designator U?
Dual 50k Digital Potentiometer with 2-Wire Serial Control Interface, Non-Volatile, Linear Taper, 256 Steps, -40 to 85 degC, 14-pin TSSOP (U14+1), Pb-Free, Tape and Reel; PartNumber: MAX5478EUD+T; DatasheetVersion: Rev. 5; PackageVersion: Rev. L, 07/2010; PackageReference: U14+1; PackageDescription: 14-Pin Thin Shrink Small-Outline Package (U14+1), Body 5 x 4.4 mm, Pitch 0.65 mm; Supplier 1: Digi-Key; Supplier Part Number 1: MAX5478EUD+T-ND; Supplier 2: Mouser; Supplier Part Number 2: 700-MAX5478EUDT; Control Interface: 2-Wire Serial; Features: EEPROM Wiper Memory; Mounting Technology: Surface Mount; Code_JEDEC: MO-153; ComponentLink1Description: Manufacturer URL; ComponentLink1URL: http://www.maximintegrated.com/; ComponentLink2Description: Datasheet; ComponentLink2URL: http://datasheets.maximintegrated.com/en/ds/MAX5477-MAX5479.pdf; ComponentLink3Description: Package Specification; ComponentLink3URL: http://pdfserv.maximintegrated.com/package_dwgs/21-0066.PDF
footprint MAXM-U14+1_N (SOP, 14-Leads, Body 5x4.4mm, Pitch 0.65mm, IPC Medium Density)
footprint MAXM-U14+1_L (SOP, 14-Leads, Body 5x4.4mm, Pitch 0.65mm, IPC High Density)
footprint MAXM-U14+1_M (SOP, 14-Leads, Body 5x4.4mm, Pitch 0.65mm, IPC Low Density)
pins: 1 HA "Potentiometer A High Terminal", 2 WA "Potentiometer A Wiper Terminal", 3 LA "Potentiometer A Low Terminal", 4 HB "Potentiometer B High Terminal", 5 WB "Potentiometer B Wiper Terminal", 6 LB "Potentiometer B Low Terminal", 7 WP (in) "Write-Protect Input. Connect to GND to allow changes to the wiper position and the data stored in the EEPROM. Connect to VDD or leave unconnected to enable the write protection of the EEPROM. See the Write Protect (WP) (See Datasheet)", 8 GND (power) "Ground", 9 A2 (in) "Address Input 2. Connect to VDD or GND", 10 A1 (in) "Address Input 1. Connect to VDD or GND", 11 A0 (in) "Address Input 0. Connect to VDD or GND", 12 SDA (io) "I2C Serial Data", 13 SCL (in) "I2C Clock Input", 14 VDD (power) "Power-Supply Input. Connect a +2.7V to +5.25V power supply to VDD and bypass VDD to GND with a 0.1uF capacitor installed as close to the device as possible"

## MAX5478EUD-T
designator U?
Dual 50k Digital Potentiometer with 2-Wire Serial Control Interface, Non-Volatile, Linear Taper, 256 Steps, -40 to 85 degC, 14-pin TSSOP (U14-1), Tape and Reel; PartNumber: MAX5478EUD-T; DatasheetVersion: Rev. 5; PackageVersion: Rev. L, 07/2010; PackageReference: U14-1; PackageDescription: 14-Pin Thin Shrink Small-Outline Package (U14-1), Body 5 x 4.4 mm, Pitch 0.65 mm; Supplier 1: Mouser; Supplier Part Number 1: N/A; Control Interface: 2-Wire Serial; Features: EEPROM Wiper Memory; Mounting Technology: Surface Mount; Code_JEDEC: MO-153; ComponentLink1Description: Manufacturer URL; ComponentLink1URL: http://www.maximintegrated.com/; ComponentLink2Description: Datasheet; ComponentLink2URL: http://datasheets.maximintegrated.com/en/ds/MAX5477-MAX5479.pdf; ComponentLink3Description: Package Specification; ComponentLink3URL: http://pdfserv.maximintegrated.com/package_dwgs/21-0066.PDF
footprint MAXM-U14-1_N (SOP, 14-Leads, Body 5x4.4mm, Pitch 0.65mm, IPC Medium Density)
footprint MAXM-U14-1_L (SOP, 14-Leads, Body 5x4.4mm, Pitch 0.65mm, IPC High Density)
footprint MAXM-U14-1_M (SOP, 14-Leads, Body 5x4.4mm, Pitch 0.65mm, IPC Low Density)
pins: 1 HA "Potentiometer A High Terminal", 2 WA "Potentiometer A Wiper Terminal", 3 LA "Potentiometer A Low Terminal", 4 HB "Potentiometer B High Terminal", 5 WB "Potentiometer B Wiper Terminal", 6 LB "Potentiometer B Low Terminal", 7 WP (in) "Write-Protect Input. Connect to GND to allow changes to the wiper position and the data stored in the EEPROM. Connect to VDD or leave unconnected to enable the write protection of the EEPROM. See the Write Protect (WP) (See Datasheet)", 8 GND (power) "Ground", 9 A2 (in) "Address Input 2. Connect to VDD or GND", 10 A1 (in) "Address Input 1. Connect to VDD or GND", 11 A0 (in) "Address Input 0. Connect to VDD or GND", 12 SDA (io) "I2C Serial Data", 13 SCL (in) "I2C Clock Input", 14 VDD (power) "Power-Supply Input. Connect a +2.7V to +5.25V power supply to VDD and bypass VDD to GND with a 0.1uF capacitor installed as close to the device as possible"

## MAX5479ETE
designator U?
Dual, I2C, 100k Digital Potentiometer with 2-Wire Serial Control Interface, Non-Volatile, Linear Taper, 256 Steps, -40 to 85 degC, 16-pin TQFN (T1633F-3); PartNumber: MAX5479ETE; DatasheetVersion: Rev. 5; PackageVersion: Rev. L, 04/2012; PackageReference: T1633F-3; PackageDescription: 16-Pin Thin Quad Flatpack, No Leads, Body 3 x 3 mm, Pitch 0.5 mm; Supplier 1: Mouser; Supplier Part Number 1: N/A; Control Interface: 2-Wire Serial; Features: EEPROM Wiper Memory; Mounting Technology: Surface Mount; Code_JEDEC: MO220; ComponentLink1Description: Manufacturer URL; ComponentLink1URL: http://www.maximintegrated.com/; ComponentLink2Description: Datasheet; ComponentLink2URL: http://datasheets.maximintegrated.com/en/ds/MAX5477-MAX5479.pdf; ComponentLink3Description: Package Specification; ComponentLink3URL: http://pdfserv.maximintegrated.com/package_dwgs/21-0136.PDF
footprint MAXM-T1633F-3_N (QFN, 16-Leads, Body 3x3mm, Pitch 0.5mm, Thermal Pad 0.8x0.8mm, IPC Medium Density)
footprint MAXM-T1633F-3_L (QFN, 16-Leads, Body 3x3mm, Pitch 0.5mm, Thermal Pad 0.8x0.8mm, IPC High Density)
footprint MAXM-T1633F-3_M (QFN, 16-Leads, Body 3x3mm, Pitch 0.5mm, Thermal Pad 0.8x0.8mm, IPC Low Density)
pins: 1 VDD (power) "Power-Supply Input. Connect a +2.7V to +5.25V power supply to VDD and bypass VDD to GND with a 0.1uF capacitor installed as close to the device as possible.", 2 SCL (in) "I2C Clock Input", 3 SDA (io) "I2C Serial Data", 4 A0 (in) "Address Input 0. Connect to VDD or GND (see Table 1).", 5 A1 (in) "Address Input 1. Connect to VDD or GND (see Table 1).", 6 A2 (in) "Address Input 2. Connect to VDD or GND (see Table 1).", 7 GND (power) "Ground", 8 NC "No Connection. Do not connect.", 9 WP (in) "Write-Protect Input. Connect to GND to allow changes to the wiper position and the data stored in the EEPROM. Connect to VDD or leave unconnected to enable the write protection of the EEPROM. See the Write Protect (WP) (See Datasheet)", 10 LB "Potentiometer B Low Terminal", 11 WB "Potentiometer B Wiper Terminal", 12 HB "Potentiometer B High Terminal", 13 LA "Potentiometer A Low Terminal", 14 WA "Potentiometer A Wiper Terminal", 15 HA "Potentiometer A High Terminal", 16 NC "No Connection. Do not connect.", 17 EP "Exposed Paddle. Do not connect."

## MAX5479ETE+
designator U?
Dual, I2C, 100k Digital Potentiometer with 2-Wire Serial Control Interface, Non-Volatile, Linear Taper, 256 Steps, -40 to 85 degC, 16-pin TQFN (T1633F+3), Pb-Free,; PartNumber: MAX5479ETE+; DatasheetVersion: Rev. 5; PackageVersion: Rev. L, 04/2012; PackageReference: T1633F+3; PackageDescription: 16-Pin Thin Quad Flatpack, No Leads, Body 3 x 3 mm, Pitch 0.5 mm; Supplier 1: Digi-Key; Supplier Part Number 1: MAX5479ETE+-ND; Supplier 2: Mouser; Supplier Part Number 2: 700-MAX5479ETE; Control Interface: 2-Wire Serial; Features: EEPROM Wiper Memory; Mounting Technology: Surface Mount; Code_JEDEC: MO220; ComponentLink1Description: Manufacturer URL; ComponentLink1URL: http://www.maximintegrated.com/; ComponentLink2Description: Datasheet; ComponentLink2URL: http://datasheets.maximintegrated.com/en/ds/MAX5477-MAX5479.pdf; ComponentLink3Description: Package Specification; ComponentLink3URL: http://pdfserv.maximintegrated.com/package_dwgs/21-0136.PDF
footprint MAXM-T1633F+3_N (QFN, 16-Leads, Body 3x3mm, Pitch 0.5mm, Thermal Pad 0.8x0.8mm, IPC Medium Density)
footprint MAXM-T1633F+3_L (QFN, 16-Leads, Body 3x3mm, Pitch 0.5mm, Thermal Pad 0.8x0.8mm, IPC High Density)
footprint MAXM-T1633F+3_M (QFN, 16-Leads, Body 3x3mm, Pitch 0.5mm, Thermal Pad 0.8x0.8mm, IPC Low Density)
pins: 1 VDD (power) "Power-Supply Input. Connect a +2.7V to +5.25V power supply to VDD and bypass VDD to GND with a 0.1uF capacitor installed as close to the device as possible.", 2 SCL (in) "I2C Clock Input", 3 SDA (io) "I2C Serial Data", 4 A0 (in) "Address Input 0. Connect to VDD or GND (see Table 1).", 5 A1 (in) "Address Input 1. Connect to VDD or GND (see Table 1).", 6 A2 (in) "Address Input 2. Connect to VDD or GND (see Table 1).", 7 GND (power) "Ground", 8 NC "No Connection. Do not connect.", 9 WP (in) "Write-Protect Input. Connect to GND to allow changes to the wiper position and the data stored in the EEPROM. Connect to VDD or leave unconnected to enable the write protection of the EEPROM. See the Write Protect (WP) (See Datasheet)", 10 LB "Potentiometer B Low Terminal", 11 WB "Potentiometer B Wiper Terminal", 12 HB "Potentiometer B High Terminal", 13 LA "Potentiometer A Low Terminal", 14 WA "Potentiometer A Wiper Terminal", 15 HA "Potentiometer A High Terminal", 16 NC "No Connection. Do not connect.", 17 EP "Exposed Paddle. Do not connect."

## MAX5479ETE+T
designator U?
Dual, I2C, 100k Digital Potentiometer with 2-Wire Serial Control Interface, Non-Volatile, Linear Taper, 256 Steps, -40 to 85 degC, 16-pin TQFN (T1633F+3), Pb-Free, Tape and Reel; PartNumber: MAX5479ETE+T; DatasheetVersion: Rev. 5; PackageVersion: Rev. L, 04/2012; PackageReference: T1633F+3; PackageDescription: 16-Pin Thin Quad Flatpack, No Leads, Body 3 x 3 mm, Pitch 0.5 mm; Supplier 1: Digi-Key; Supplier Part Number 1: MAX5479ETE+T-ND; Supplier 2: Mouser; Supplier Part Number 2: 700-MAX5479ETET; Control Interface: 2-Wire Serial; Features: EEPROM Wiper Memory; Mounting Technology: Surface Mount; Code_JEDEC: MO220; ComponentLink1Description: Manufacturer URL; ComponentLink1URL: http://www.maximintegrated.com/; ComponentLink2Description: Datasheet; ComponentLink2URL: http://datasheets.maximintegrated.com/en/ds/MAX5477-MAX5479.pdf; ComponentLink3Description: Package Specification; ComponentLink3URL: http://pdfserv.maximintegrated.com/package_dwgs/21-0136.PDF
footprint MAXM-T1633F+3_N (QFN, 16-Leads, Body 3x3mm, Pitch 0.5mm, Thermal Pad 0.8x0.8mm, IPC Medium Density)
footprint MAXM-T1633F+3_L (QFN, 16-Leads, Body 3x3mm, Pitch 0.5mm, Thermal Pad 0.8x0.8mm, IPC High Density)
footprint MAXM-T1633F+3_M (QFN, 16-Leads, Body 3x3mm, Pitch 0.5mm, Thermal Pad 0.8x0.8mm, IPC Low Density)
pins: 1 VDD (power) "Power-Supply Input. Connect a +2.7V to +5.25V power supply to VDD and bypass VDD to GND with a 0.1uF capacitor installed as close to the device as possible.", 2 SCL (in) "I2C Clock Input", 3 SDA (io) "I2C Serial Data", 4 A0 (in) "Address Input 0. Connect to VDD or GND (see Table 1).", 5 A1 (in) "Address Input 1. Connect to VDD or GND (see Table 1).", 6 A2 (in) "Address Input 2. Connect to VDD or GND (see Table 1).", 7 GND (power) "Ground", 8 NC "No Connection. Do not connect.", 9 WP (in) "Write-Protect Input. Connect to GND to allow changes to the wiper position and the data stored in the EEPROM. Connect to VDD or leave unconnected to enable the write protection of the EEPROM. See the Write Protect (WP) (See Datasheet)", 10 LB "Potentiometer B Low Terminal", 11 WB "Potentiometer B Wiper Terminal", 12 HB "Potentiometer B High Terminal", 13 LA "Potentiometer A Low Terminal", 14 WA "Potentiometer A Wiper Terminal", 15 HA "Potentiometer A High Terminal", 16 NC "No Connection. Do not connect.", 17 EP "Exposed Paddle. Do not connect."

## MAX5479ETE-T
designator U?
Dual, I2C, 100k Digital Potentiometer with 2-Wire Serial Control Interface, Non-Volatile, Linear Taper, 256 Steps, -40 to 85 degC, 16-pin TQFN (T1633F-3), Tape and Reel; PartNumber: MAX5479ETE-T; DatasheetVersion: Rev. 5; PackageVersion: Rev. L, 04/2012; PackageReference: T1633F-3; PackageDescription: 16-Pin Thin Quad Flatpack, No Leads, Body 3 x 3 mm, Pitch 0.5 mm; Supplier 1: Mouser; Supplier Part Number 1: N/A; Control Interface: 2-Wire Serial; Features: EEPROM Wiper Memory; Mounting Technology: Surface Mount; Code_JEDEC: MO220; ComponentLink1Description: Manufacturer URL; ComponentLink1URL: http://www.maximintegrated.com/; ComponentLink2Description: Datasheet; ComponentLink2URL: http://datasheets.maximintegrated.com/en/ds/MAX5477-MAX5479.pdf; ComponentLink3Description: Package Specification; ComponentLink3URL: http://pdfserv.maximintegrated.com/package_dwgs/21-0136.PDF
footprint MAXM-T1633F-3_N (QFN, 16-Leads, Body 3x3mm, Pitch 0.5mm, Thermal Pad 0.8x0.8mm, IPC Medium Density)
footprint MAXM-T1633F-3_L (QFN, 16-Leads, Body 3x3mm, Pitch 0.5mm, Thermal Pad 0.8x0.8mm, IPC High Density)
footprint MAXM-T1633F-3_M (QFN, 16-Leads, Body 3x3mm, Pitch 0.5mm, Thermal Pad 0.8x0.8mm, IPC Low Density)
pins: 1 VDD (power) "Power-Supply Input. Connect a +2.7V to +5.25V power supply to VDD and bypass VDD to GND with a 0.1uF capacitor installed as close to the device as possible.", 2 SCL (in) "I2C Clock Input", 3 SDA (io) "I2C Serial Data", 4 A0 (in) "Address Input 0. Connect to VDD or GND (see Table 1).", 5 A1 (in) "Address Input 1. Connect to VDD or GND (see Table 1).", 6 A2 (in) "Address Input 2. Connect to VDD or GND (see Table 1).", 7 GND (power) "Ground", 8 NC "No Connection. Do not connect.", 9 WP (in) "Write-Protect Input. Connect to GND to allow changes to the wiper position and the data stored in the EEPROM. Connect to VDD or leave unconnected to enable the write protection of the EEPROM. See the Write Protect (WP) (See Datasheet)", 10 LB "Potentiometer B Low Terminal", 11 WB "Potentiometer B Wiper Terminal", 12 HB "Potentiometer B High Terminal", 13 LA "Potentiometer A Low Terminal", 14 WA "Potentiometer A Wiper Terminal", 15 HA "Potentiometer A High Terminal", 16 NC "No Connection. Do not connect.", 17 EP "Exposed Paddle. Do not connect."